# EAGLE library part 750315126 (library WE-PP_TRANSFORMER)
Würth Elektronik 705315126 Lpri = 40µH Isat = 3.8A Turn Ratio = 2:1:1
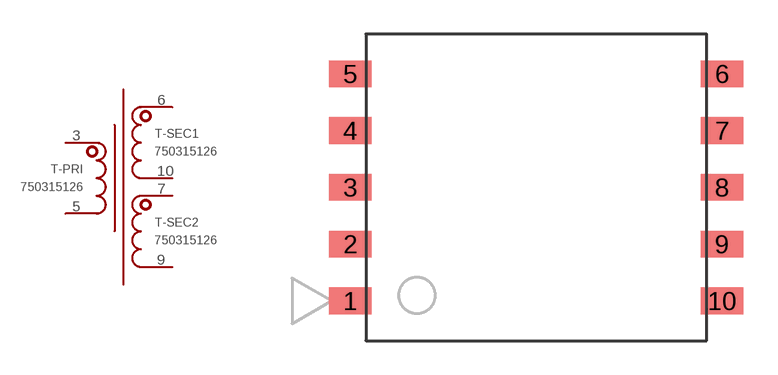
[diagram p8: symbol with the pads of 750314782; footprint 750314782]

Designator prefix T; gates -PRI=WINDING-SINGLE-LEFT -SEC1=WINDING-SINGLE-RIGHT -SEC2=WINDING-SINGLE-RIGHT

## 750315126 (MARK: 750315126; MF: Würth Elektronik; MPN: 750315126)  [750314782]
3  -PRI:1
5  -PRI:2
6  -SEC1:1
7  -SEC2:1
9  -SEC2:2
10  -SEC1:2

## Footprint 750314782 (pad centres in mm)
smd 1.88 x 1.17: 1 -8.18,-5; 2 -8.18,-2.5; 3 -8.18,0; 4 -8.18,2.5; 5 -8.18,5; 6 8.18,5; 7 8.18,2.5; 8 8.18,0; 9 8.18,-2.5; 10 8.18,-5